# Altium footprint library usbdac_lib.PcbLib: 9 footprints
Each footprint in its own frame and in the unit in brackets; x right, y up, seen from the top. Pads: shape width x height; smd on the part's side, far side on the other; paste and mask are expansions set on the pad; w line width, h text height; cw(c..) or ccw(c..) is an arc to the next point about the centre after c.
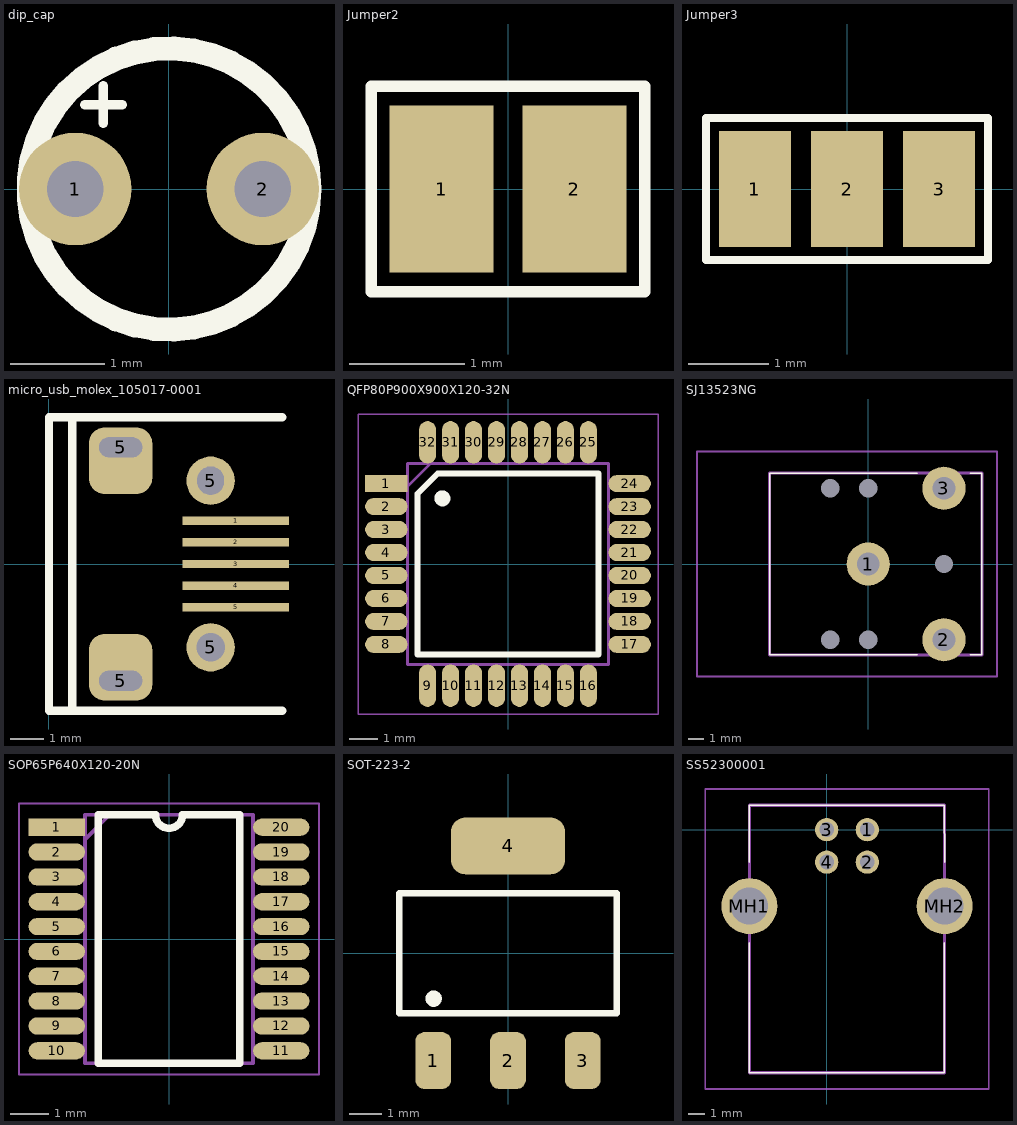
[diagram p0: the footprints below, top view; thin cyan lines are the x and y axes]

## dip_cap [mm]
pads (2):
  round 1.2 hole 0.6: 1(-1,0) 2(1,0)
Top Overlay:
  circle w0.254: c0,0 r1.5
  lines w0.1: -0.9,0.9 -0.5,0.9 ; -0.7,0.7 -0.7,1.1

## Jumper2 [mm]
pads (2):
  rect 0.9x1.45 smd: 1(-0.575,0) 2(0.575,0)
Top Overlay:
  lines w0.1: -1.187,-0.889 -1.187,0.889 1.187,0.889 1.187,-0.889 -1.187,-0.889

## Jumper3 [mm]
pads (3):
  rect 0.9x1.45 smd: 1(-1.15,0) 2(0,0) 3(1.15,0)
Top Overlay:
  lines w0.1: -1.762,-0.889 -1.762,0.889 1.762,0.889 1.762,-0.889 -1.762,-0.889

## micro_usb_molex_105017-0001 [mm]
pads (9):
  rect 3.2x0.25 smd: 1(5.6,1.3) 2(5.6,0.65) 3(5.6,0) 4(5.6,-0.65) 5(5.6,-1.3)
  rrect50% 1.9x2 hole 0.6 slot 1.3 at 0 deg copper offset 0,0.4: 5(2.15,-3.5)
  rrect50% 1.9x2 hole 0.6 slot 1.3 at 0 deg copper offset 0,-0.4: 5(2.15,3.5)
  round 1.45 hole 0.85: 5(4.85,-2.5)
  round 1.45 hole 0.85 slot 0.8 at 0 deg: 5(4.85,2.5)
Top Overlay:
  lines w0.254: 0.7,-4.4 0.7,4.4 ; 7,-4.4 0,-4.4 0,0 0,4.4 7,4.4
3D body "1050170001.stp": height 2.78, standoff -0.53, extent -0.45,-4.1 4.95,4.1

## QFP80P900X900X120-32N [mm]
pads (32):
  rect 1.475x0.6 smd: 1(-4.238,2.8)
  oval 1.475x0.6 smd: 2(-4.238,2) 3(-4.238,1.2) 4(-4.238,0.4) 5(-4.238,-0.4) 6(-4.238,-1.2) 7(-4.238,-2) 8(-4.238,-2.8) 17(4.238,-2.8) 18(4.238,-2) 19(4.238,-1.2) 20(4.238,-0.4) 21(4.238,0.4) 22(4.238,1.2) 23(4.238,2) 24(4.238,2.8)
  oval 0.6x1.475 smd: 9(-2.8,-4.238) 10(-2,-4.238) 11(-1.2,-4.238) 12(-0.4,-4.238) 13(0.4,-4.238) 14(1.2,-4.238) 15(2,-4.238) 16(2.8,-4.238) 25(2.8,4.238) 26(2,4.238) 27(1.2,4.238) 28(0.4,4.238) 29(-0.4,4.238) 30(-1.2,4.238) 31(-2,4.238) 32(-2.8,4.238)
Top Overlay:
  circle w0.4: c-2.286,2.286 r0.076
  lines w0.2: -3.15,-3.15 -3.15,2.45 -2.45,3.15 3.15,3.15 3.15,-3.15 -3.15,-3.15
Mechanical 13:
  lines w0.1: -3.5,2.7 -2.7,3.5 ; -3.5,-3.5 -3.5,3.5 3.5,3.5 3.5,-3.5 -3.5,-3.5
Mechanical 15:
  lines w0.05: -5.225,-5.225 -5.225,5.225 5.225,5.225 5.225,-5.225 -5.225,-5.225
3D body "PCM2706PJT.stp": height 1.2, standoff 0, extent -4.5,-4.5 4.5,4.5

## SJ13523NG [mm]
pads (8):
  round 2.85 hole 1.5: 1(0,0) 2(5,-5) 3(5,5)
  round 0.6 hole 1.2 unplated: MH1(-2.5,5) MH2(0,5) MH3(-2.5,-5) MH4(0,-5) MH5(5,0)
Top Overlay:
  lines w0.1: -6.5,-6 -6.5,6 ; -6.5,-6 -6.5,6 ; -6.5,-6 3.25,-6 -6.5,-6 ; -6.5,6 3.25,6 -6.5,6 ; 7.5,-6 7.5,6 ; 7.5,-6 7.5,6 ; 7.5,-6 6.75,-6 7.5,-6 ; 7.5,6 6.75,6 7.5,6
Mechanical 13:
  lines w0.2: -6.5,-6 -6.5,6 7.5,6 7.5,-6 -6.5,-6
Mechanical 15:
  lines w0.1: -11.3,-7.425 -11.3,7.425 8.5,7.425 8.5,-7.425 -11.3,-7.425
3D body "SJ1-3523NG.stp": height 5.7, standoff -5, extent -6.5,-6 7.5,6

## SOP65P640X120-20N [mm]
pads (20):
  rect 1.475x0.45 smd: 1(-2.938,2.925)
  oval 1.475x0.45 smd: 2(-2.938,2.275) 3(-2.938,1.625) 4(-2.938,0.975) 5(-2.938,0.325) 6(-2.938,-0.325) 7(-2.938,-0.975) 8(-2.938,-1.625) 9(-2.938,-2.275) 10(-2.938,-2.925) 11(2.938,-2.925) 12(2.938,-2.275) 13(2.938,-1.625) 14(2.938,-0.975) 15(2.938,-0.325) 16(2.938,0.325) 17(2.938,0.975) 18(2.938,1.625) 19(2.938,2.275) 20(2.938,2.925)
Top Overlay:
  lines w0.2: -1.85,-3.25 -1.85,3.25 -0.353,3.25 ccw(c0,3.25) 0.353,3.25 1.85,3.25 1.85,-3.25 -1.85,-3.25
Mechanical 13:
  lines w0.1: -2.2,2.6 -1.55,3.25 ; -2.2,-3.25 -2.2,3.25 2.2,3.25 2.2,-3.25 -2.2,-3.25
Mechanical 15:
  lines w0.05: -3.925,-3.55 -3.925,3.55 3.925,3.55 3.925,-3.55 -3.925,-3.55
3D body "PCM5102AQPWRQ1.stp": height 1.2, standoff 0, extent -3.2,-3.25 3.2,3.25

## SOT-223-2 [mm] "SOT-223/SC-73; 4 Leads; Body 6.7 x 7.3 mm, inc. leads (LxW max)"
height 1.75
pads (4):
  rrect50% 1.1x1.75 smd: 1(-2.3,-3.3) 2(0,-3.3) 3(2.3,-3.3)
  rrect50% 3.5x1.75 smd: 4(0,3.3)
Top Overlay:
  circle w0.25: c-2.286,-1.397 r0.125
  lines w0.2: -3.35,-1.85 -3.35,1.85 3.35,1.85 3.35,-1.85 -3.35,-1.85
3D body "SOT-223-2.STEP": height 1.85, standoff -0.05, extent -3.35,-3.704 3.35,3.5

## SS52300001 [mm]
pads (6):
  round 1.431 hole 0.92: 1(2.5,0) 2(2.5,-2) 3(0,0) 4(0,-2)
  round 3.45 hole 2.3: MH1(-4.77,-4.71) MH2(7.27,-4.71)
Top Overlay:
  lines w0.1: -4.77,-6.99 -4.77,-14.99 7.25,-14.99 7.25,-6.99 ; -4.77,-2 -4.77,1.51 7.25,1.51 7.27,-1.99
Mechanical 13:
  lines w0.2: -4.77,-14.99 -4.77,1.51 7.27,1.51 7.27,-14.99 -4.77,-14.99
Mechanical 15:
  lines w0.1: -7.495,-15.99 -7.495,2.51 9.995,2.51 9.995,-15.99 -7.495,-15.99
3D body "SS-52300-001.stp": height 10.62, standoff -4.24, extent -6.22,-14.99 8.72,1.51